# Altium schematic symbol library Holberton_V1.SCHLIB: 125 symbols (part 2 of 2)
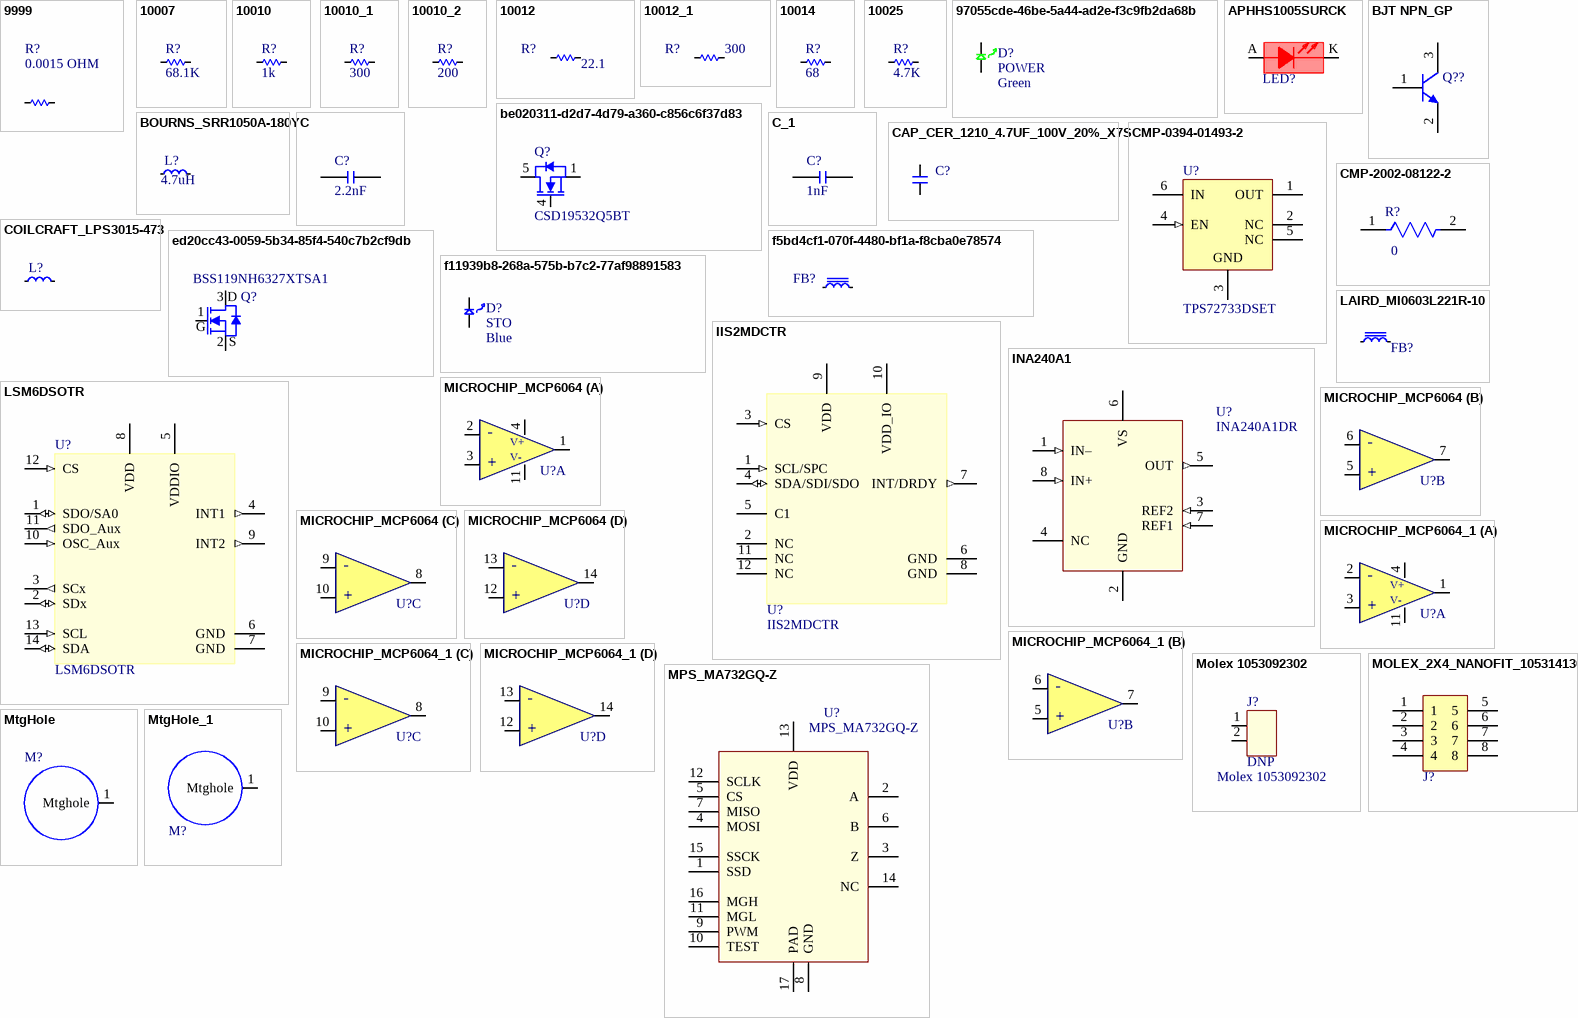
[diagram p5: symbols 9999 to MtgHole_1]

## CMP-2002-08122-2
designator R?, comment 0
RES, 0, JUMPER, 1/16W, 0402; MFG: YAGEO; MFG P/N: RC0402FR-070RL; COMMON: 470-02332-00; ComponentLink1URL: https://www.digikey.com/en/products/detail/yageo/RC0402FR-070RL/2827570; Supplier 1: Digi-Key; Supplier Part Number 1: 311-0.0LRCT-ND; Value: 0; Package: 0402; Status: Released
footprint FP-CRCW0402-e3-IPC_C
footprint FP-CRCW0402-e3-IPC_A
footprint FP-CRCW0402-e3-MFG
footprint FP-CRCW0402-e3-IPC_B
footprint R0402
pins: 1, 2

## COILCRAFT_LPS3015-473
designator L?  (value not drawn)
COILCRAFT   LPS3015-473MRB   INDUCTOR, SHLD, 47UH, 20%, 0.3A, SMD; MFG P/N: XFL3012-473MEC; Supplier 1: Mouser; Supplier Part Number 1: 994-XFL3012-473MEC; ComponentLink1URL: https://www.mouser.com/ProductDetail/Coilcraft/XFL3012-473MEC?qs=zCSbvcPd3pb%2FTL0aawZbwA%3D%3D; MFG: Coilcraft; Value: 47uH
footprint COILCRAFT_LPS3015-473
pins: 1, 2

## ed20cc43-0059-5b34-85f4-540c7b2cf9db
designator Q?, comment value BSS119NH6327XTSA1  (hidden comment: ONSEMI BSS123)
XSTR, MOSFET, ENHANCEMENT MODE, N-CH, 100V, 0.17A, SOT23-3; Package: SOT-23; ComponentLink1URL: https://www.digikey.com/en/products/detail/infineon-technologies/BSS119NH6327XTSA1/5409997; Status: Released; MFG: onsemi; MFG P/N: BSS119NH6327XTSA1; Supplier 1: Digi-Key; Supplier Part Number 1: BSS119NH6327XTSA1CT-ND
footprint SOT23-3P95_240X110L43N (SOT23, 3-Leads, Body 2.92x2.37mm, Pitch 0.95mm, IPC Medium Density)
pins: 1 G, 2 S, 3 D

## f5bd4cf1-070f-4480-bf1a-f8cba0e78574
designator FB?, comment LAIRD MI0603L221R-10  (value not drawn)
FERRITE BEAD 220 OHM 0603 1LN; Value: 220 Ohms @ 100 MHz; MFG: Laird-Signal Integrity Products; Package: Inductor, 0603; ComponentLink1URL: https://media.digikey.com/pdf/Data%20Sheets/Laird%20Technologies/EMI_Filtering_and_RF_Inductors.pdf; Status: Preliminary; MFG P/N: MI0603L221R-10; Supplier 1: Digi-Key; Supplier Part Number 1: 240-2558-1-ND
footprint INDC160X80X105L30N
pins: 1, 2

## f11939b8-268a-575b-b7c2-77af98891583
designator D?, comment STO  value Blue
LED, BLUE, 470nm, 15mA, DIFFUSED, 0603; MFG: OSRAM Opto (ams OSRAM); MFG P/N: LB Q39E-N1OO-35-1; Package: 0603 (1608 Metric); ComponentLink1URL: https://www.digikey.com/en/products/detail/osram-opto-ams-osram/LB-Q39E-N1OO-35-1/2176321; Status: Released; Supplier 1: Digi-Key; Supplier Part Number 1: 475-2815-1-ND
footprint LEDSC160X80X90L40-BLUE (LED, Side Concave, 2-Leads, Body 1.60x0.80mm)
pins: 1 CATHODE, 2 ANODE

## IIS2MDCTR
designator U?, comment Mfg P/N: IIS2MDCTR  (hidden comment: SENSOR_ST_IIS2MDCTR)
SENSOR MR I2C/SPI 12LGA; Mfg: STMicroelectronics; Status: Released; Package: 12-LGA; Supplier 1: Digi-Key; ComponentLink1URL: https://www.st.com/content/ccc/resource/technical/document/datasheet/1e/3f/2a/d6/25/eb/48/46/DM00103319.pdf/files/DM00103319.pdf/jcr:content/translations/en.DM00103319.pdf; Supplier Part Number 1: 497-17728-1-ND; Value: IIS2MDCTR
footprint 12-LGA (Footprint not found)
pins: 1 SCL/SPC (in), 2 NC, 3 CS (in), 4 SDA/SDI/SDO (io), 5 C1, 6 GND (power), 7 INT/DRDY (out), 8 GND (power), 9 VDD (power), 10 VDD_IO (power), 11 NC, 12 NC

## INA240A1
designator U?, comment INA240A1DR
Current Sense Amplifiers -4 to 80V, bidirectional, ultra-precise current sense amplifier with enhanced PWM rejection, 20V/V gain; MFG: Texas Instruments; Supplier 1: Digi-Key; Supplier Part Number 1: 296-51172-1-ND; ComponentLink1URL: https://www.digikey.com/en/products/detail/texas-instruments/INA240A1DR/8538109; MFG P/N: INA240A1DR; Value: INA240A1DR
footprint TI SOIC-8 D0008A (Package SOIC-8, 8-Leades, 4.90 x 3.89 mm Body , Pitch 1.27 mm)
pins: 1 IN– (in), 2 GND (power), 3 REF2 (in), 4 NC, 5 OUT (out), 6 VS (power), 7 REF1 (in), 8 IN+ (in)

## LAIRD_MI0603L221R-10
designator FB?, comment LAIRD MI0603L221R-10  (value not drawn)
FERRITE BEAD 220 OHM 0603 1LN; Value: 220 Ohms @ 100 MHz; MFG: Laird-Signal Integrity Products; Package: Inductor, 0603; ComponentLink1URL: https://media.digikey.com/pdf/Data%20Sheets/Laird%20Technologies/EMI_Filtering_and_RF_Inductors.pdf; Status: Preliminary; Supplier 1: Mouser; Supplier Part Number 1: 240-2558-1-ND; MFG P/N: MI0603L221R-10
footprint INDC160X80X105L30N
pins: 1, 2

## LSM6DSOTR
designator U?, comment Mfg P/N: LSM6DSOTR  (hidden comment: SENSOR_ST_LSM6DSOTR)
Accelerometer, Gyroscope, 6 Axis Sensor I²C, SPI Output; Mfg: STMicroelectronics; Status: Released; Package: 14-LGA; Supplier 1: Digi-Key; ComponentLink1URL: https://www.st.com/content/ccc/resource/technical/document/datasheet/1e/3f/2a/d6/25/eb/48/46/DM00103319.pdf/files/DM00103319.pdf/jcr:content/translations/en.DM00103319.pdf; Supplier Part Number 1: 497-18181-1-ND; Value: LSM6DSOTR
footprint 14-LGA (Footprint not found)
pins: 1 SDO/SA0 (io), 2 SDx (io), 3 SCx (out), 4 INT1 (out), 5 VDDIO (power), 6 GND (power), 7 GND (power), 8 VDD (power), 9 INT2 (out), 10 OSC_Aux (in), 11 SDO_Aux (out), 12 CS (in), 13 SCL (in), 14 SDA (io)

## MICROCHIP_MCP6064
designator U?, comment MCP6064  (value not drawn)
Microchip MCP6064-E/ST; Quad Op Amp; 0.73MHz CMOS; Rail to Rail; 3V; 5V; 14-Pin TSSOP; MFG: Microchip Technology; ComponentLink1URL: http://www.microchip.com/mymicrochip/filehandler.aspx?ddocname=en528763; Supplier 1: Digi-Key; Supplier Part Number 1: MCP6064-E/ST-ND; MFG P/N: MCP6064-E/ST; Value: MCP6064
footprint 14TSSOP65 (TSOP, 14-Leads, Body 5.1x4.5mm (max), Pitch 0.65mm, IPC High Density)
part A pins: 1, 2, 3, 4, 11
part B pins: 5, 6, 7
part C pins: 8, 9, 10
part D pins: 12, 13, 14
1 alternate drawing of the same symbol
part A text: -; V+; V-; +
part B text: -; +
part C text: -; +
part D text: -; +

## MICROCHIP_MCP6064_1
designator U?, comment MCP6064  (value not drawn)
Microchip MCP6064-E/ST; Quad Op Amp; 0.73MHz CMOS; Rail to Rail; 3V; 5V; 14-Pin TSSOP; MFG: Microchip Technology; ComponentLink1URL: http://www.microchip.com/mymicrochip/filehandler.aspx?ddocname=en528763; Supplier 1: Digi-Key; Supplier Part Number 1: MCP6064-E/ST-ND; MFG P/N: MCP6064-E/ST; Value: MCP6064-E/ST
footprint 14TSSOP65 (TSOP, 14-Leads, Body 5.1x4.5mm (max), Pitch 0.65mm, IPC High Density)
part A pins: 1, 2, 3, 4, 11
part B pins: 5, 6, 7
part C pins: 8, 9, 10
part D pins: 12, 13, 14
1 alternate drawing of the same symbol
part A text: -; V+; V-; +
part B text: -; +
part C text: -; +
part D text: -; +

## Molex 1053092302
designator J?, comment DNP  value Molex 1053092302
CONN HEADER VERT 2POS 2.5MM; MFG: Molex; MFG P/N: 1053092302; ComponentLink1URL: https://www.digikey.com/en/products/detail/molex/1053092302/6164139; Supplier 1: Digi-Key; Supplier Part Number 1: WM15050-ND
footprint Molex 1053092302
pins: 1, 2

## MOLEX_2X4_NANOFIT_1053141308
designator J?  (value not drawn)
CONN HEADER R/A 8POS 2.5MM; MFG: Molex; Supplier 1: Digi-Key; Supplier Part Number 1: WM15168-ND; ComponentLink1URL: https://www.digikey.com/en/products/detail/molex/1053141308/6164257; MFG P/N: 1053141308; Value: 1053141308
footprint MOLEX_1053141308 (Footprint not found)
pins: 1, 2, 3, 4, 5, 6, 7, 8

## MPS_MA732GQ-Z
designator U?
14-BIT, DIGITAL, CONTACTLESS ANG; MFG: Monolithic Power Systems Inc.; ComponentLink1URL: https://www.digikey.com/en/products/detail/monolithic-power-systems-inc/MA732GQ-Z/15196210; MFG P/N: MA732GQ-Z; Supplier 1: Digi-Key; Supplier Part Number 1: 1589-MA732GQ-ZCT-ND; Value: MA732GQ-Z
footprint MPS_MA732GQ-Z
pins: 1 SSD, 2 A, 3 Z, 4 MOSI, 5 CS, 6 B, 7 MISO, 8 GND, 9 PWM, 10 TEST, 11 MGL, 12 SCLK, 13 VDD, 14 NC, 15 SSCK, 16 MGH, 17 PAD

## MtgHole
designator M?, comment 3.7mm hole 5mm pad  (value not drawn)  (net tie, no BOM)
Value: 3.7mm hole 5mm pad
footprint 3.7hole5pad (3.7mm hole with 5mm pad)
pins: 1 Mtghole

## MtgHole_1
designator M?, comment 1.7mm hole 5mm pad  (value not drawn)  (no BOM)
footprint 1.7hole5padRD (1.7mm hole with 5mm round pad)
pins: 1 Mtghole

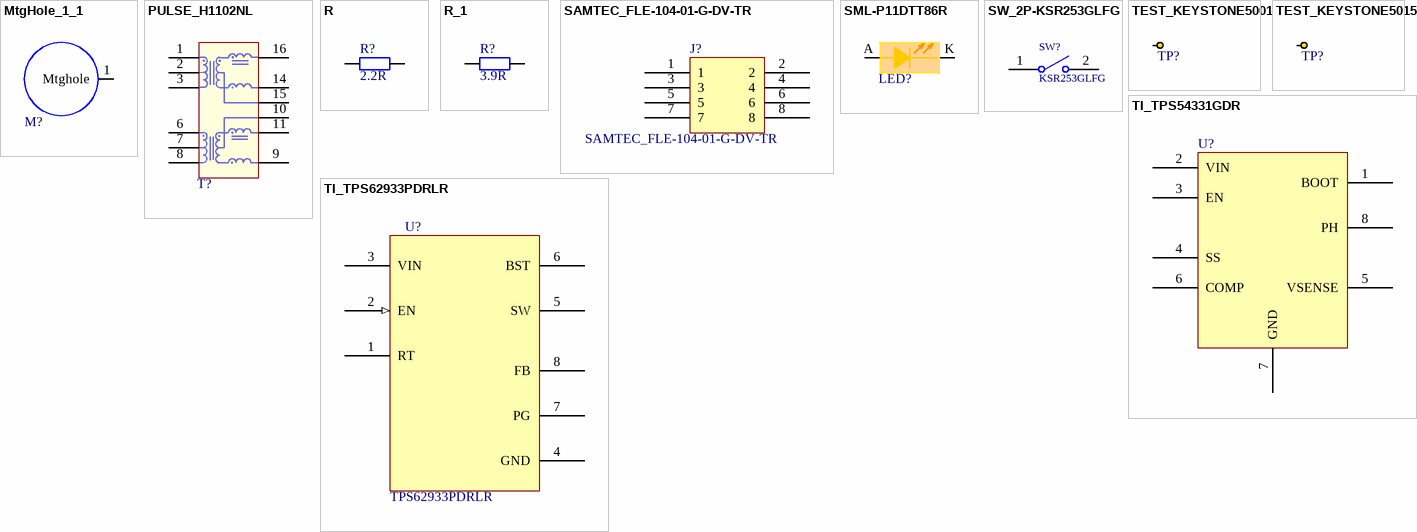
[diagram p4: symbols MtgHole_1_1 to TI_TPS62933PDRLR]

## MtgHole_1_1
designator M?, comment Keystone_8737  (value not drawn)
Motor lead attachement points Keystone_8737; MFG: Keystone Electronics; MFG P/N: 8737; Value: 8737; Supplier 1: Digi-Key; Supplier Part Number 1: 36-8737-ND
footprint HOLE_M2.5_SCREW (Footprint not found)
footprint Keystone_8737
pins: 1 Mtghole

## PULSE_H1102NL
designator T?  (value not drawn)
Telecom Transformer 2(1:1) 0.65Ohm Prim. DCR 0.65Ohm Sec. DCR 16 Terminal Gull Wing SMD; MFG: Pulse Electronics; Supplier 1: Digi-Key; Supplier Part Number 1: 553-1323-5-ND; ComponentLink1URL: https://datasheet.ciiva.com/2938/10-100base-tsingleportsmdmagnetics-rev2008-2938779.pdf?src-supplier=Digi-Key; MFG P/N: H1102NL; Value: H1102NL
footprint PULSE_HXXXX (SOP, 16-Leads, Body 12.70x7.11mm, Pitch 1.27mm, IPC Medium Density)
pins: 1, 2, 3, 6, 7, 8, 9, 10, 11, 14, 15, 16

## R
designator R?, comment 2.2R
RES SMD 2.2 OHM 1% 1/2W 0805; MFG: Vishay Dale; MFG P/N: CRCW08052R20FKEAHP; ComponentLink1URL: https://www.digikey.com/en/products/detail/vishay-dale/CRCW08052R20FKEAHP/2226670; Supplier 1: Digi-Key; Supplier Part Number 1: 541-2.20TCT-ND; Value: 2.2R
footprint RES 0805_2012 RF (Chip Resistor, 2-Leads, Body 2.00x1.25mm, IPC High Density)
footprint R0805
pins: 1, 2

## R_1
designator R?, comment 3.9R
RES SMD 3.9 OHM 5% 1/2W 0805; MFG: Panasonic Electronic Components; MFG P/N: ERJ-HP6F3R90V; ComponentLink1URL: https://www.digikey.com/en/products/detail/panasonic-electronic-components/ERJ-HP6F3R90V/13877855; Supplier 1: Digi-Key; Supplier Part Number 1: 10-ERJ-HP6F3R90VCT-ND; Value: 3.9R; Package: 0805
footprint RES 0805_2012 RF (Chip Resistor, 2-Leads, Body 2.00x1.25mm, IPC High Density)
footprint R0805
pins: 1, 2

## SAMTEC_FLE-104-01-G-DV-TR
designator J?
CONN RCPT .05" 8POS DUAL SMD; MFG: Samtec Inc.; Supplier 1: Digi-Key; Supplier Part Number 1: SAM1226-04-ND; ComponentLink1URL: https://datasheet.ciiva.com/747/fle-1xx-xx-xx-dv-x-mkt1-747009.pdf?src-supplier=Digi-Key; MFG P/N: FLE-104-01-G-DV; Value: FLE-104-01-G-DV
footprint SAMTEC_FLE-104-01-G-DV-TR
pins: 1, 2, 3, 4, 5, 6, 7, 8

## SML-P11DTT86R
designator LED?  (value not drawn)
LED ORANGE CLEAR 1006 SMD; MFG: Rohm Semiconductor; Status: Released; MFG P/N: SML-P11DTT86R; Package: 0402; Value: SML-P11DTT86R; Supplier 1: Digi-Key; ComponentLink1URL: http://www.kingbrightusa.com/images/catalog/SPEC/APG0603SYC-TT.pdf; Supplier Part Number 1: SML-P11DTT86RCT-ND
footprint LED_SML-P11DTT86R (Footprint not found)
pins: A, K

## SW_2P-KSR253GLFG
designator SW?, comment KSR253GLFG
SWITCH TACTILE SPST-NO 0.01A 32V; MFG: C&K; ComponentLink1URL: https://www.digikey.com/en/products/detail/c-k/KSR253GLFG/958074?s=N4IgTCBcDaINIGUBKYCsBmA4gGQGKZAF0BfIA; MFG P/N: KSR253GLFG; Supplier 1: Digi-Key; Supplier Part Number 1: 401-1708-1-ND; Value: KSR253GLFG
footprint SW_KSR253GLFG (Footprint not found)
pins: 1, 2

## TEST_KEYSTONE5001
designator TP?  (value not drawn)
PC TEST POINT TH RING; MFG: Keystone Electronics; MFG P/N: 5001; Value: 5001; Supplier 1: Digi-Key; Supplier Part Number 1: 5001K-ND; ComponentLink1URL: http://www.keyelco.com/product-pdf.cfm?p=1310; Status: In Development
footprint TP_KEYSTONE_5001
pins: 1

## TEST_KEYSTONE5015
designator TP?  (value not drawn)
PC TEST POINT MINIATURE SMT; MFG: Keystone Electronics; MFG P/N: 5015; Value: 5015; COMMON: 250-00207-00; Supplier 1: Digi-Key; ComponentLink1URL: http://mail.keyelco.com/ENG._DEPT/PDF%20CAT%20NO%20Drawings/5015.pdf; Supplier Part Number 1: 36-5015CT-ND; Status: In Development
footprint TP_KEYSTONE_5015
pins: 1

## TI_TPS54331GDR
designator U?  (value not drawn)
Conv DC-DC Single Step Down 3.5V to 28V 8-Pin SOIC T/R; MFG: Texas Instruments; Supplier 1: Digi-Key; Supplier Part Number 1: 296-50099-1-ND; ComponentLink1URL: https://datasheet.ciiva.com/2034/tps54331-2034843.pdf?src-supplier=Digi-Key; MFG P/N: TPS54331GDR; Value: TPS54331GDR
footprint SOIC127P600X175-8N (SOIC, 8-Leads, Body 4.91x3.90mm, Pitch 1.27mm, IPC Medium Density)
pins: 1 BOOT, 2 VIN, 3 EN, 4 SS, 5 VSENSE, 6 COMP, 7 GND, 8 PH

## TI_TPS62933PDRLR
designator U?, comment TPS62933PDRLR
IC REG BUCK ADJUSTABLE 3A SOT583; MFG: Texas Instruments; Supplier 1: Digi-Key; Supplier Part Number 1: 296-TPS62933PDRLRCT-ND; ComponentLink1URL: https://datasheet.ciiva.com/2034/tps54331-2034843.pdf?src-supplier=Digi-Key; MFG P/N: TPS62933PDRLR; Value: TPS62933PDRLR
footprint SOT-583 (Footprint not found)
pins: 1 RT, 2 EN (in), 3 VIN (power), 4 GND (power), 5 SW, 6 BST, 7 PG, 8 FB